# EAGLE library part BME280 (library NMR_Bosch)
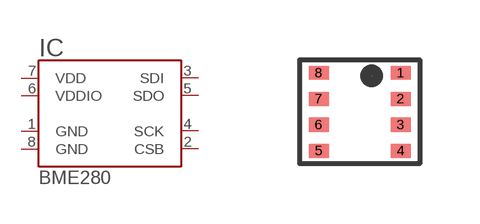
[diagram p0: symbol with the pads of LGA-8; footprint LGA-8]

Designator prefix IC

## BME280  [LGA-8]
1  GND
2  CSB
3  SDI
4  SCK
5  SDO
6  VDDIO
7  VDD
8  GND

## Footprint LGA-8 (pad centres in mm)
smd 0.5 x 0.35: 1 1.025,0.975; 2 1.025,0.325; 3 1.025,-0.325; 4 1.025,-0.975; 5 -1.025,-0.975; 6 -1.025,-0.325; 7 -1.025,0.325; 8 -1.025,0.975